# Altium schematic symbol library BAT54C.SchLib: 1 symbol
Pins are listed as number, name and electrical type; pins without a type are passive.

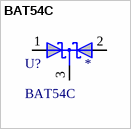
[diagram p0: symbol BAT54C]

## BAT54C
designator U?
30V 800mV@100mA 200mA SOT-23(TO-236)  Schottky Barrier Diodes (SBD) ROHS; LCSC: *
footprint BAT54C
pins: 1, 2, 3